# Altium footprint library SW-SMD_G-SWITCH_MK-12C02-G015_2022-02-25.PcbLib: 1 footprints
Each footprint in its own frame and in the unit in brackets; x right, y up, seen from the top. Pads: shape width x height; smd on the part's side, far side on the other; paste and mask are expansions set on the pad; w line width, h text height; cw(c..) or ccw(c..) is an arc to the next point about the centre after c.
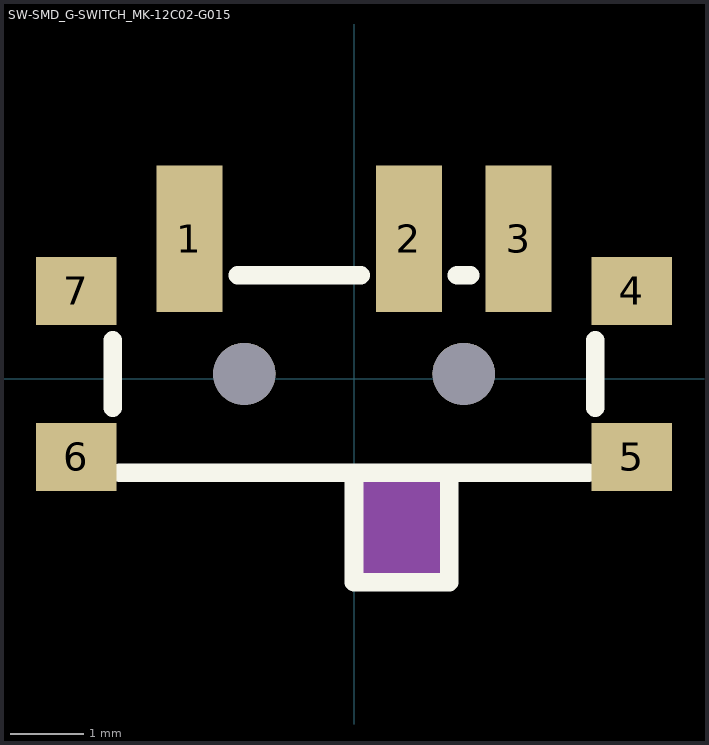
[diagram p0: the footprint, top view; thin cyan lines are the x and y axes]

## SW-SMD_G-SWITCH_MK-12C02-G015 [mm]
pads (9):
  rect 0.9x2 smd: 1(-2.25,1.912) 2(0.75,1.912) 3(2.25,1.912)
  rect 1.1x0.93 smd: 4(3.8,1.2) 5(3.8,-1.07) 6(-3.8,-1.07) 7(-3.8,1.2)
  round 0.85 hole 0.85 unplated: ""(-1.5,0.065) ""(1.5,0.065)
Top Overlay:
  lines w0.254: -3.3,-0.397 -3.3,0.527 ; -3.2,-1.285 3.2,-1.285 ; -1.592,1.415 0.092,1.415 ; 0,-1.285 0,-2.785 1.3,-2.785 1.3,-1.285 ; 1.408,1.415 1.592,1.415 ; 3.3,-0.397 3.3,0.527
Mechanical 15:
  circle w0.35: c1.5,0.065 r0.175
  circle w0.35: c-1.5,0.065 r0.175
  region: -0.02,-1.269 1.28,-1.259 1.28,-2.759 -0.04,-2.759 -0.04,-2.579